# Altium footprint library USB-C-SMD_TYPE-C-6PIN-2MD-073.PcbLib: 1 footprints
Each footprint in its own frame and in the unit in brackets; x right, y up, seen from the top. Pads: shape width x height; smd on the part's side, far side on the other; paste and mask are expansions set on the pad; w line width, h text height; cw(c..) or ccw(c..) is an arc to the next point about the centre after c.
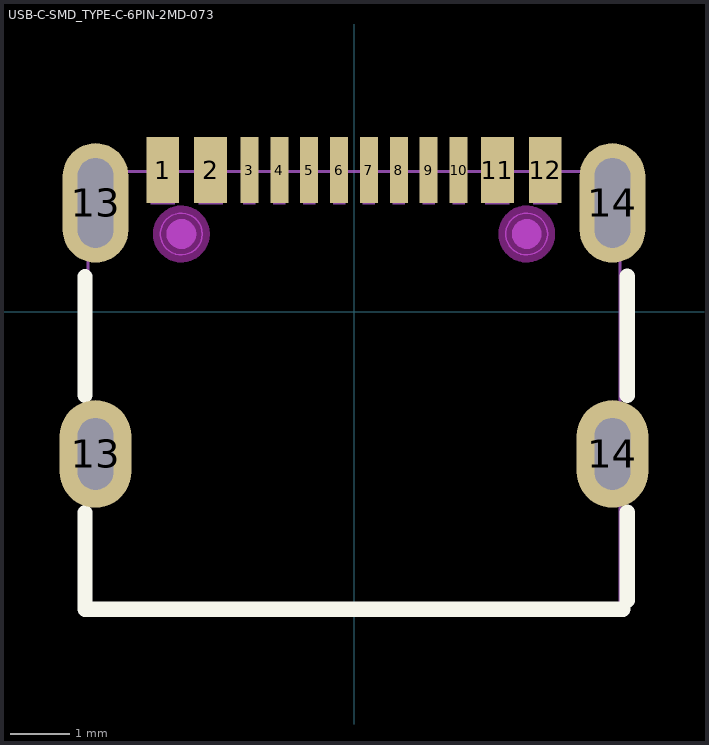
[diagram p0: the footprint, top view; thin cyan lines are the x and y axes]

## USB-C-SMD_TYPE-C-6PIN-2MD-073 [mm]
pads (16):
  rect 0.55x1.1 smd paste-100 mask+0.05: 1(-3.2,2.375) 2(-2.4,2.375) 11(2.4,2.375) 12(3.2,2.375)
  rect 0.3x1.1 smd paste-100 mask+0.05: 3(-1.75,2.375) 4(-1.25,2.375) 5(-0.75,2.375) 6(-0.25,2.375) 7(0.25,2.375) 8(0.75,2.375) 9(1.25,2.375) 10(1.75,2.375)
  oval 1.1x2 hole 0.6 slot 1.5 at 90 deg paste-2539.97 mask+0.05: 13(-4.325,1.825) 14(4.325,1.825)
  oval 1.2x1.8 hole 0.6 slot 1.2 at 90 deg paste-2539.97 mask+0.05: 13(-4.325,-2.375) 14(4.325,-2.375)
Top Overlay:
  lines w0.254: -4.5,-3.356 -4.5,-4.975 4.5,-4.975 ; -4.5,-1.394 -4.5,0.594 ; 4.572,-4.826 4.572,-3.353 ; 4.572,-1.397 4.572,0.597
Top Paste:
  drawing of 16 lines, arcs and shapes, not listed
Keep-Out Layer:
  board cut-out: 3.24,1.305 3.239,1.374 3.185,1.5 3.086,1.597 2.959,1.649 2.821,1.649 2.694,1.597 2.596,1.5 2.541,1.374 2.54,1.305 2.541,1.236 2.596,1.11 2.694,1.013 2.821,0.961 2.959,0.961 3.086,1.013 3.185,1.11 3.239,1.236 3.24,1.305
  board cut-out: -2.54,1.305 -2.541,1.374 -2.595,1.5 -2.694,1.597 -2.821,1.649 -2.959,1.649 -3.086,1.597 -3.184,1.5 -3.239,1.374 -3.24,1.305 -3.239,1.236 -3.184,1.11 -3.086,1.013 -2.959,0.961 -2.821,0.961 -2.694,1.013 -2.595,1.11 -2.541,1.236 -2.54,1.305
Mechanical 1:
  circle w0.025: c2.89,1.305 r0.35
  circle w0.025: c-2.89,1.305 r0.35
Mechanical 6:
  circle w0.25: c2.89,1.305 r0.125
  circle w0.25: c-2.89,1.305 r0.125
Mechanical 15:
  region: 4.2,-2.025 4.45,-2.025 4.45,-2.725 4.2,-2.725
  region: -4.45,-2.025 -4.2,-2.025 -4.2,-2.725 -4.45,-2.725
  region: 4.2,2.349 4.45,2.349 4.45,1.249 4.2,1.249
  region: -4.45,2.349 -4.2,2.349 -4.2,1.249 -4.45,1.249
  region: 3,2.649 3.4,2.649 3.4,1.799 3,1.799
  region: 2.2,2.649 2.6,2.649 2.6,1.799 2.2,1.799
  region: -2.6,2.649 -2.2,2.649 -2.2,1.799 -2.6,1.799
  region: -3.4,2.649 -3,2.649 -3,1.799 -3.4,1.799
  region: 1.65,2.649 1.85,2.649 1.85,1.799 1.65,1.799
  region: 1.15,2.649 1.35,2.649 1.35,1.799 1.15,1.799
  region: 0.65,2.649 0.85,2.649 0.85,1.799 0.65,1.799
  region: 0.15,2.649 0.35,2.649 0.35,1.799 0.15,1.799
  region: -0.35,2.649 -0.15,2.649 -0.15,1.799 -0.35,1.799
  region: -1.35,2.649 -1.15,2.649 -1.15,1.799 -1.35,1.799
  region: -0.85,2.649 -0.65,2.649 -0.65,1.799 -0.85,1.799
  region: -1.85,2.649 -1.65,2.649 -1.65,1.799 -1.85,1.799
  region: -4.39,2.649 -4.39,2.674 -4.425,2.709 -4.475,2.709 -4.51,2.674 -4.51,2.649 -4.51,2.624 -4.475,2.589 -4.425,2.589 -4.39,2.624 -4.39,2.649
  lines w0.051: -4.45,-5.001 4.45,-5.001 4.45,2.349 -4.45,2.349 -4.45,-5.001
Multi-Layer keep-out:
  circle w0.254: c2.89,1.305 r0.35
  circle w0.254: c-2.89,1.305 r0.35
3D body "USB_type_C_smd_12ps.stp": height 3.2, standoff -0.7, extent -5.373,-4.98 5.627,2.87